# Altium footprint library PCB - POWER INDUCTORS - WURTH WE-LQSH 2512.PcbLib: 1 footprints
Each footprint in its own frame and in the unit in brackets; x right, y up, seen from the top. Pads: shape width x height; smd on the part's side, far side on the other; paste and mask are expansions set on the pad; w line width, h text height; cw(c..) or ccw(c..) is an arc to the next point about the centre after c.
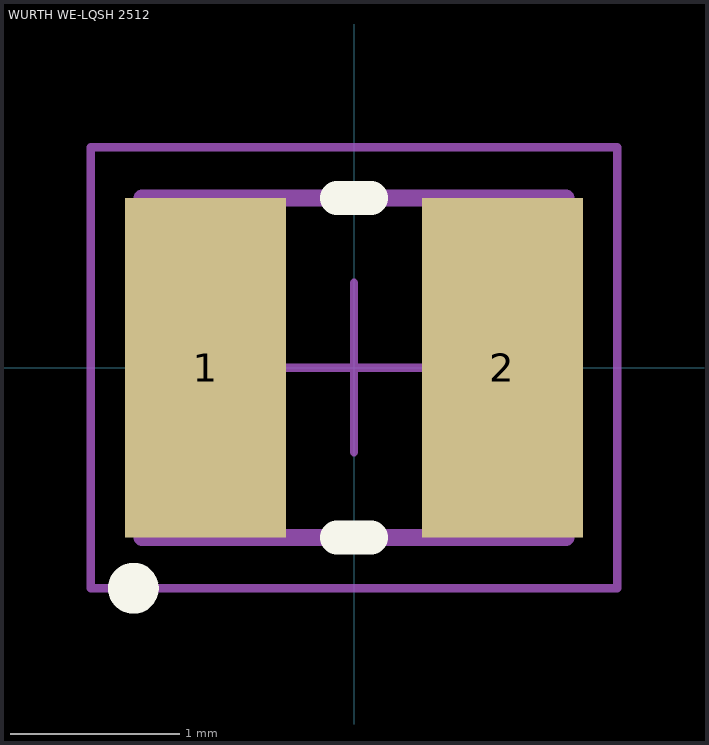
[diagram p0: the footprint, top view; thin cyan lines are the x and y axes]

## WURTH WE-LQSH 2512 [mm] "SMT Semi-Shielded High Saturation Power Inductor, body 2.5x2mm"
height 1.2
pads (2):
  rect 0.95x2 smd: 1(-0.875,0) 2(0.875,0)
Top Overlay:
  circle w0.15: c-1.3,-1.3 r0.075
  lines w0.2: -0.1,-1 0.1,-1 ; -0.1,1 0.1,1
Top 3D Body:
  circle w0.1: c-0.85,-0.6 r0.2
  lines w0.1: -1.25,-1 -1.25,1 1.25,1 1.25,-1 -1.25,-1
Top Assembly:
  circle w0.1: c-0.85,-0.6 r0.2
  lines w0.1: -1.25,-1 -1.25,1 1.25,1 1.25,-1 -1.25,-1
Top Courtyard:
  lines w0.05: -0.5,0 0.5,0 ; 0,-0.5 0,0.5 ; -1.55,-1.3 -1.55,1.3 1.55,1.3 1.55,-1.3 -1.55,-1.3
3D body "IndLQSH_2512.stp": height 1.19, standoff -0.01, extent -1.25,-1 1.25,1